# EAGLE library part M12 (library PaxInstruments-Connectors)
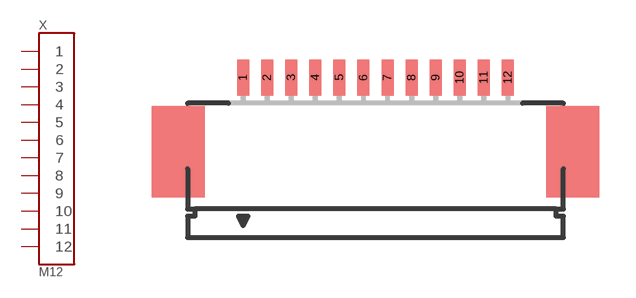
[diagram p0: symbol with the pads of FPC_12P_1MM; footprint FPC_12P_1MM]

Designator prefix X

## M12_BOTTOM_CONTACTS_FPC_1MM (MF: Hirose Connector; MPN: FH12-12S-1SH(55)), M12_TOP_CONTACTS_FPC_1MM (MF: Hirose Connector)  [FPC_12P_1MM]
1  1
2  2
3  3
4  4
5  5
6  6
7  7
8  8
9  9
10  10
11  11
12  12

## Footprint FPC_12P_1MM (pad centres in mm)
smd 0.5 x 1.5: 1 -5.5,2.297; 2 -4.5,2.297; 3 -3.5,2.297; 4 -2.5,2.297; 5 -1.5,2.297; 6 -0.5,2.297; 7 0.5,2.297; 8 1.5,2.297; 9 2.5,2.297; 10 3.5,2.297; 11 4.5,2.297; 12 5.5,2.297